# Altium footprint library Library_oll_component.PcbLib: 31 footprints (part 1 of 2)
Each footprint in its own frame and in the unit in brackets; x right, y up, seen from the top. Pads: shape width x height; smd on the part's side, far side on the other; paste and mask are expansions set on the pad; w line width, h text height; cw(c..) or ccw(c..) is an arc to the next point about the centre after c.
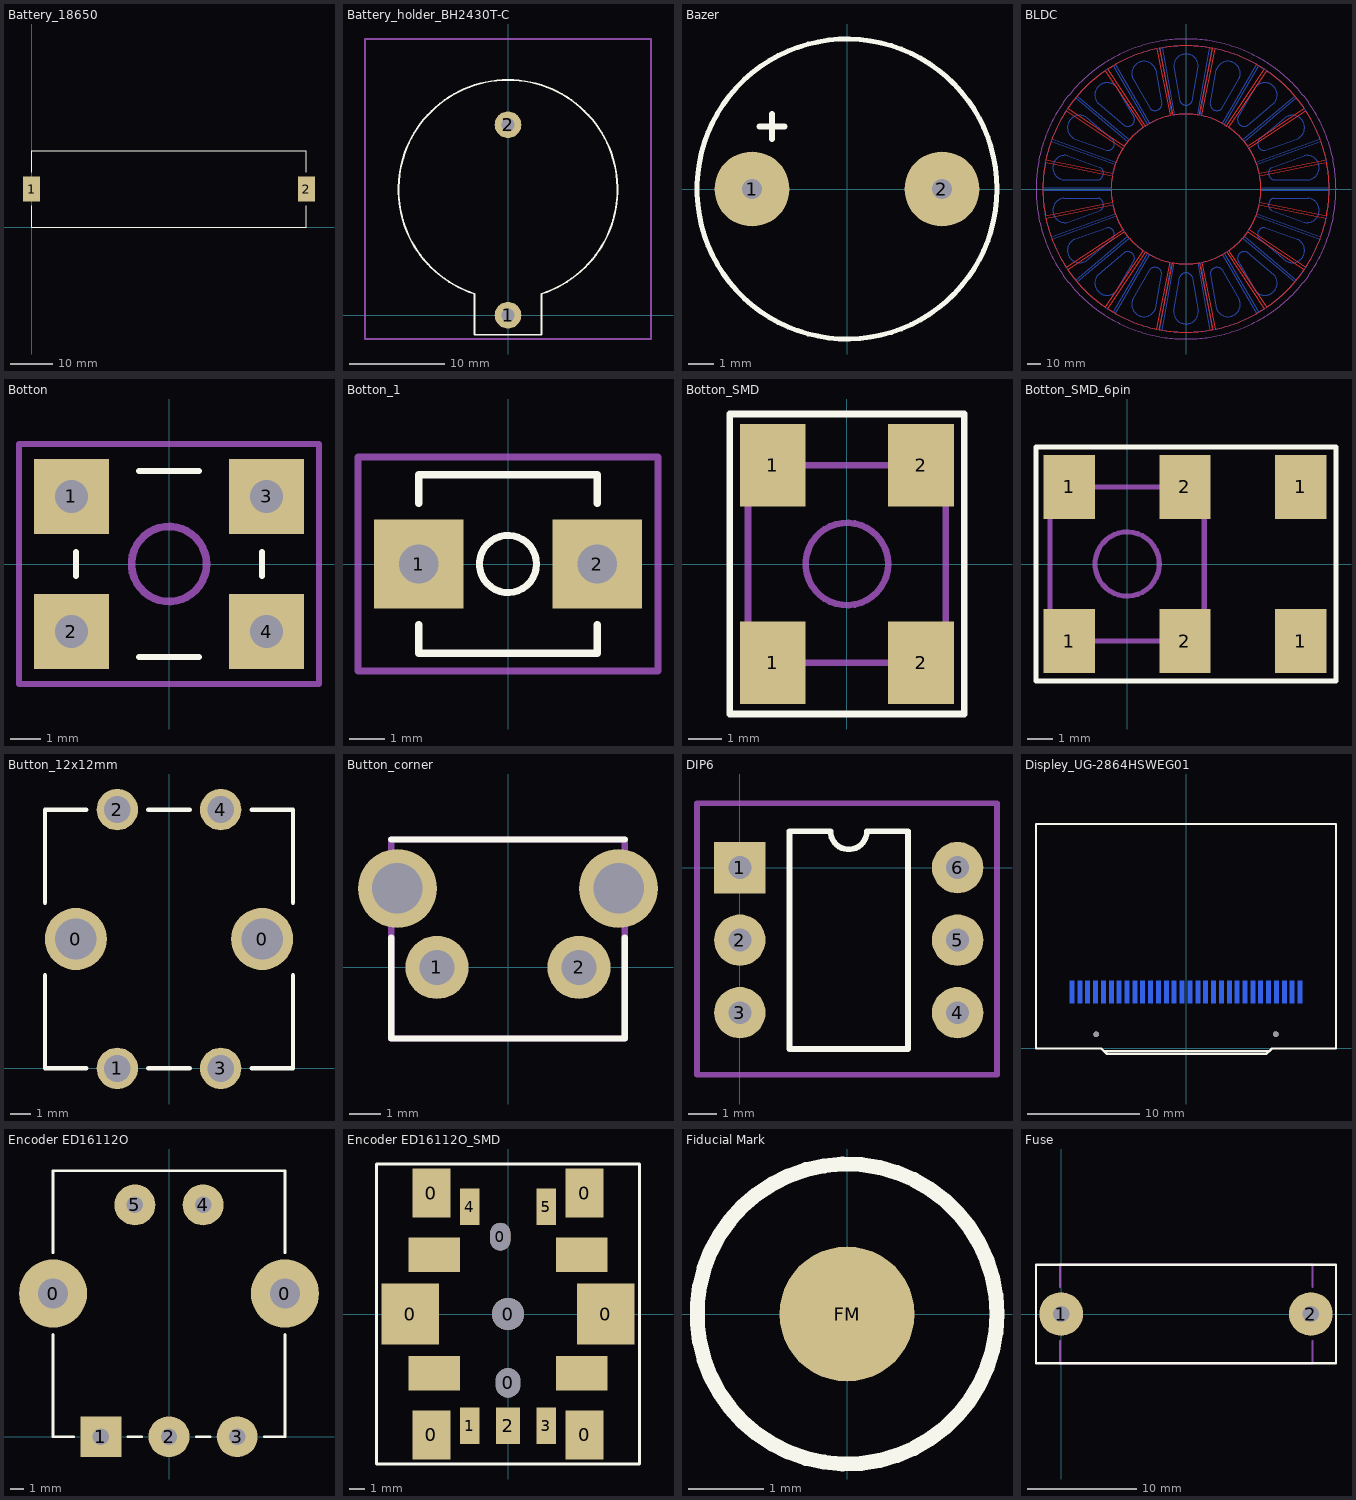
[diagram p0: the footprints below, top view; thin cyan lines are the x and y axes]

## Battery_18650 [mm]
height 6.8
pads (2):
  rect 4x6 smd: 1(0,9) 2(65,9)
Top Overlay:
  lines w0.2: 0,5 0,0 65,0 65,5 ; 0,13 0,18 65,18 65,13
3D body "User Library-18650 battery.STEP": height 21.37, standoff 3.17, extent -0.075,0 65.075,18.2

## Battery_holder_BH2430T-C [mm]
height 6.8
pads (2):
  round 2.8 hole 1.4: 1(0,0) 2(0,20)
Top Overlay:
  lines w0.2: -3.509,2.248 cw(c0,13.2) 3.509,2.248 ; -3.5,2.248 -3.5,-2.05 3.5,-2.05 3.5,2.248
Mechanical 15:
  lines w0.2: -15,-2.5 -15,29 15,29 15,-2.5 -5.001,-2.5 -15,-2.5
3D body "User Library-20mm_coin_holder.STEP": height 8.67, standoff -3.5, extent -11.55,-2.7 11.45,24.731

## Bazer [mm]
pads (2):
  round 3 hole 0.8: 1(-3.8,0) 2(3.8,0)
Top Overlay:
  circle w0.2: c0,0 r6
  lines w0.254: -3.5,2.5 -2.5,2.5 ; -3,2 -3,3
3D body "SW3dPS-WST-1203UX.STEP": height 9.65, standoff -4.5, extent -9.454,-6 6,6

## BLDC [mm]
Top Layer:
  lines w0.5: -103.08,19.499 ccw(c-5,0) -103.076,-19.521 ; -103.08,19.499 ccw(c-5,0) -103.076,-19.521 ; -103.08,19.499 -54.041,9.745 ; -103.08,19.499 -54.041,9.745 ; -103.076,-19.521 -54.037,-9.767 ; -103.076,-19.521 -54.037,-9.767 ; -102.7,21.41 cw(c-4.619,1.913) -87.772,57.462 ; -102.7,21.41 cw(c-4.619,1.913) -87.772,57.462 ; -102.7,21.41 -53.661,11.656 ; -102.7,21.41 -53.661,11.656 ; -102.696,-21.432 ccw(c-4.619,-1.913) -87.759,-57.481 ; -102.696,-21.432 ccw(c-4.619,-1.913) -87.759,-57.481 ; -102.696,-21.432 -53.657,-11.678 ; -102.696,-21.432 -53.657,-11.678 ; -87.772,57.462 -46.198,29.684 ; -87.772,57.462 -46.198,29.684 ; -87.759,-57.481 -46.186,-29.702 ; -87.759,-57.481 -46.186,-29.702 ; -86.689,59.082 cw(c-3.536,3.536) -59.101,86.677 ; -86.689,59.082 cw(c-3.536,3.536) -59.101,86.677 ; -86.689,59.082 -45.116,31.304 ; -86.689,59.082 -45.116,31.304 ; -86.677,-59.101 ccw(c-3.536,-3.536) -59.082,-86.689 ; -86.677,-59.101 ccw(c-3.536,-3.536) -59.082,-86.689 ; -86.677,-59.101 -45.104,-31.322 ; -86.677,-59.101 -45.104,-31.322 ; -59.101,86.677 -31.322,45.104 ; -59.101,86.677 -31.322,45.104 ; -59.082,-86.689 -31.304,-45.116 ; -59.082,-86.689 -31.304,-45.116 ; -57.481,87.759 cw(c-1.913,4.619) -21.432,102.696 ; -57.481,87.759 cw(c-1.913,4.619) -21.432,102.696 ; -57.481,87.759 -29.702,46.186 ; -57.481,87.759 -29.702,46.186 ; -57.462,-87.772 ccw(c-1.913,-4.619) -21.41,-102.7 ; -57.462,-87.772 ccw(c-1.913,-4.619) -21.41,-102.7 ; -57.462,-87.772 -29.684,-46.198 ; -57.462,-87.772 -29.684,-46.198 ; -54.041,9.745 ccw(c-5,0) -54.037,-9.767 ; -54.041,9.745 ccw(c-5,0) -54.037,-9.767 ; -53.661,11.656 cw(c-4.619,1.913) -46.198,29.684 ; -53.661,11.656 cw(c-4.619,1.913) -46.198,29.684 ; -53.657,-11.678 ccw(c-4.619,-1.913) -46.186,-29.702 ; -53.657,-11.678 ccw(c-4.619,-1.913) -46.186,-29.702 ; -45.116,31.304 cw(c-3.536,3.536) -31.322,45.104 ; -45.116,31.304 cw(c-3.536,3.536) -31.322,45.104 ; -45.104,-31.322 ccw(c-3.536,-3.536) -31.304,-45.116 ; -45.104,-31.322 ccw(c-3.536,-3.536) -31.304,-45.116 ; -29.702,46.186 cw(c-1.913,4.619) -11.678,53.657 ; -29.702,46.186 cw(c-1.913,4.619) -11.678,53.657 ; -29.684,-46.198 ccw(c-1.913,-4.619) -11.656,-53.661 ; -29.684,-46.198 ccw(c-1.913,-4.619) -11.656,-53.661 ; -21.432,102.696 -11.678,53.657 ; -21.432,102.696 -11.678,53.657 ; -21.41,-102.7 -11.656,-53.661 ; -21.41,-102.7 -11.656,-53.661 ; -19.521,103.076 cw(c0,5) 19.499,103.08 ; -19.521,103.076 cw(c0,5) 19.499,103.08 ; -19.521,103.076 -9.767,54.037 ; -19.521,103.076 -9.767,54.037 ; -19.499,-103.08 ccw(c0,-5) 19.521,-103.076 ; -19.499,-103.08 ccw(c0,-5) 19.521,-103.076 ; -19.499,-103.08 -9.745,-54.041 ; -19.499,-103.08 -9.745,-54.041 ; -9.767,54.037 cw(c0,5) 9.745,54.041 ; -9.767,54.037 cw(c0,5) 9.745,54.041 ; -9.745,-54.041 ccw(c0,-5) 9.767,-54.037 ; -9.745,-54.041 ccw(c0,-5) 9.767,-54.037 ; 9.745,54.041 19.499,103.08 ; 9.745,54.041 19.499,103.08 ; 9.767,-54.037 19.521,-103.076 ; 9.767,-54.037 19.521,-103.076 ; 11.656,53.661 cw(c1.913,4.619) 29.684,46.198 ; 11.656,53.661 cw(c1.913,4.619) 29.684,46.198 ; 11.656,53.661 21.41,102.7 ; 11.656,53.661 21.41,102.7 ; 11.678,-53.657 ccw(c1.913,-4.619) 29.702,-46.186 ; 11.678,-53.657 ccw(c1.913,-4.619) 29.702,-46.186 ; 11.678,-53.657 21.432,-102.696 ; 11.678,-53.657 21.432,-102.696 ; 21.41,102.7 cw(c1.913,4.619) 57.462,87.772 ; 21.41,102.7 cw(c1.913,4.619) 57.462,87.772 ; 21.432,-102.696 ccw(c1.913,-4.619) 57.481,-87.759 ; 21.432,-102.696 ccw(c1.913,-4.619) 57.481,-87.759 ; 29.684,46.198 57.462,87.772 ; 29.684,46.198 57.462,87.772 ; 29.702,-46.186 57.481,-87.759 ; 29.702,-46.186 57.481,-87.759 ; 31.304,45.116 cw(c3.536,3.536) 45.104,31.322 ; 31.304,45.116 cw(c3.536,3.536) 45.104,31.322 ; 31.304,45.116 59.082,86.689 ; 31.304,45.116 59.082,86.689 ; 31.322,-45.104 ccw(c3.536,-3.536) 45.116,-31.304 ; 31.322,-45.104 ccw(c3.536,-3.536) 45.116,-31.304 ; 31.322,-45.104 59.101,-86.677 ; 31.322,-45.104 59.101,-86.677 ; 45.104,31.322 86.677,59.101 ; 45.104,31.322 86.677,59.101 ; 45.116,-31.304 86.689,-59.082 ; 45.116,-31.304 86.689,-59.082 ; 46.186,29.702 cw(c4.619,1.913) 53.657,11.678 ; 46.186,29.702 cw(c4.619,1.913) 53.657,11.678 ; 46.186,29.702 87.759,57.481 ; 46.186,29.702 87.759,57.481 ; 46.198,-29.684 ccw(c4.619,-1.913) 53.661,-11.656 ; 46.198,-29.684 ccw(c4.619,-1.913) 53.661,-11.656 ; 46.198,-29.684 87.772,-57.462 ; 46.198,-29.684 87.772,-57.462 ; 53.657,11.678 102.696,21.432 ; 53.657,11.678 102.696,21.432 ; 53.661,-11.656 102.7,-21.41 ; 53.661,-11.656 102.7,-21.41 ; 54.037,9.767 cw(c5,0) 54.041,-9.745 ; 54.037,9.767 cw(c5,0) 54.041,-9.745 ; 54.037,9.767 103.076,19.521 ; 54.037,9.767 103.076,19.521 ; 54.041,-9.745 103.08,-19.499 ; 54.041,-9.745 103.08,-19.499 ; 59.082,86.689 cw(c3.536,3.536) 86.677,59.101 ; 59.082,86.689 cw(c3.536,3.536) 86.677,59.101 ; 59.101,-86.677 ccw(c3.536,-3.536) 86.689,-59.082 ; 59.101,-86.677 ccw(c3.536,-3.536) 86.689,-59.082 ; 87.759,57.481 cw(c4.619,1.913) 102.696,21.432 ; 87.759,57.481 cw(c4.619,1.913) 102.696,21.432 ; 87.772,-57.462 ccw(c4.619,-1.913) 102.7,-21.41 ; 87.772,-57.462 ccw(c4.619,-1.913) 102.7,-21.41 ; 103.076,19.521 cw(c5,0) 103.08,-19.499 ; 103.076,19.521 cw(c5,0) 103.08,-19.499
Bottom Layer:
  lines w0.254: -89.798,-6.704 ccw(c-88.633,-15.628) -86.675,-24.413 -62.655,-15.671 ; -89.798,-6.703 -64.281,-6.703 ; -89.798,6.703 -64.237,6.703 ; -89.798,6.704 cw(c-88.633,15.628) -86.675,24.413 -62.697,15.687 ; -82.09,-37.012 -58.112,-28.285 ; -82.09,37.012 -58.07,28.269 ; -82.09,-37.013 ccw(c-77.942,-45) -73.099,-52.585 -53.517,-36.155 ; -82.09,37.013 cw(c-77.942,45) -73.099,52.585 -53.551,36.184 ; -64.281,-6.696 cw(c-65.49,-11.548) -62.657,-15.667 ; -64.237,6.707 ccw(c-65.49,11.548) -62.695,15.694 ; -58.115,-28.278 cw(c-57.591,-33.25) -53.519,-36.152 ; -58.069,28.273 ccw(c-57.591,33.25) -53.546,36.19 ; -44.938,-46.449 cw(c-42.745,-50.942) -37.927,-52.277 ; -44.934,-46.454 -64.481,-62.856 ccw(c-57.851,-68.944) -50.705,-74.415 -37.923,-52.279 ; -44.899,46.425 -64.481,62.856 cw(c-57.851,68.944) -50.705,74.415 -37.946,52.318 ; -44.897,46.428 ccw(c-42.745,50.942) -37.939,52.321 ; -39.094,-81.119 -26.336,-59.021 ; -39.094,81.119 -26.313,58.982 ; -39.093,-81.119 ccw(c-30.782,-84.572) -22.196,-87.27 ; -39.093,81.119 cw(c-30.782,84.572) -22.196,87.27 ; -26.342,-59.017 cw(c-22.744,-62.49) -17.76,-62.096 ; -26.31,58.984 ccw(c-22.744,62.49) -17.756,62.142 ; -22.195,-87.27 -17.756,-62.097 ; -22.195,87.27 -17.764,62.141 ; -4.568,-64.468 cw(c0,-66.5) 4.549,-64.425 ; -4.561,-64.469 -8.992,-89.598 ccw(c0,-90) 8.991,-89.598 4.553,-64.425 ; -4.553,64.425 -8.992,89.598 cw(c0,90) 8.991,89.598 4.561,64.469 ; -4.549,64.425 ccw(c0,66.5) 4.568,64.468 ; 17.756,-62.142 cw(c22.744,-62.49) 26.31,-58.984 ; 17.756,62.097 22.195,87.27 ; 17.76,62.096 ccw(c22.744,62.49) 26.342,59.017 ; 17.764,-62.141 22.195,-87.27 ; 19.075,103.179 cw(c1.71,4.698) 51.71,91.301 26.71,48 ccw(c1.71,4.698) 10.393,53.939 19.075,103.179 ; 22.196,-87.27 ccw(c30.782,-84.572) 39.093,-81.119 ; 22.196,87.27 cw(c30.782,84.572) 39.093,81.119 ; 26.313,-58.982 39.094,-81.119 ; 26.336,59.021 39.094,81.119 ; 37.923,52.279 50.704,74.416 cw(c57.851,68.944) 64.48,62.857 44.934,46.454 ; 37.927,52.277 ccw(c42.745,50.942) 44.938,46.449 ; 37.939,-52.321 cw(c42.745,-50.942) 44.897,-46.428 ; 37.946,-52.318 50.704,-74.416 ccw(c57.851,-68.944) 64.48,-62.857 44.899,-46.425 ; 53.517,36.155 73.098,52.586 cw(c77.942,45) 82.09,37.013 ; 53.519,36.152 ccw(c57.591,33.25) 58.115,28.278 ; 53.546,-36.19 cw(c57.591,-33.25) 58.069,-28.273 ; 53.551,-36.184 73.098,-52.586 ccw(c77.942,-45) 82.09,-37.013 ; 58.07,-28.269 82.09,-37.012 ; 58.112,28.285 82.09,37.012 ; 62.655,15.671 86.675,24.414 cw(c88.633,15.628) 89.798,6.704 ; 62.657,15.667 ccw(c65.49,11.548) 64.281,6.696 ; 62.695,-15.694 cw(c65.49,-11.548) 64.237,-6.707 ; 62.697,-15.687 86.675,-24.414 ccw(c88.633,-15.628) 89.798,-6.704 ; 64.237,-6.703 89.798,-6.703 ; 64.281,6.703 89.798,6.703 ; -104.924,-0.868 ccw(c-4.924,-0.868) -98.893,-35.07 -51.909,-17.969 cw(c-4.924,-0.868) -54.924,-0.868 -104.924,-0.868 ; -104.924,0.868 cw(c-4.924,0.868) -98.893,35.07 -51.909,17.969 ccw(c-4.924,0.868) -54.924,0.868 -104.924,0.868 ; -98.299,-36.702 ccw(c-4.33,-2.5) -80.935,-66.779 -42.632,-34.639 cw(c-4.33,-2.5) -51.315,-19.601 -98.299,-36.702 ; -98.299,36.702 cw(c-4.33,2.5) -80.935,66.779 -42.632,34.639 ccw(c-4.33,2.5) -51.315,19.601 -98.299,36.702 ; -79.818,-68.109 ccw(c-3.214,-3.83) -53.214,-90.433 -28.214,-47.131 cw(c-3.214,-3.83) -41.516,-35.97 -79.818,-68.109 ; -79.818,68.109 cw(c-3.214,3.83) -53.214,90.433 -28.214,47.131 ccw(c-3.214,3.83) -41.516,35.97 -79.818,68.109 ; -51.71,-91.301 ccw(c-1.71,-4.698) -19.075,-103.179 -10.393,-53.939 cw(c-1.71,-4.698) -26.71,-48 -51.71,-91.301 ; -51.71,91.301 cw(c-1.71,4.698) -19.075,103.179 -10.393,53.939 ccw(c-1.71,4.698) -26.71,48 -51.71,91.301 ; -17.365,-103.481 ccw(c0,-5) 17.365,-103.481 8.682,-54.24 cw(c0,-5) -8.682,-54.24 -17.365,-103.481 ; -17.365,103.481 cw(c0,5) 17.365,103.481 8.682,54.24 ccw(c0,5) -8.682,54.24 -17.365,103.481 ; 10.393,-53.939 ccw(c1.71,-4.698) 26.71,-48 51.71,-91.301 cw(c1.71,-4.698) 19.075,-103.179 10.393,-53.939 ; 28.214,-47.131 ccw(c3.214,-3.83) 41.516,-35.97 79.818,-68.109 cw(c3.214,-3.83) 53.214,-90.433 28.214,-47.131 ; 28.214,47.131 cw(c3.214,3.83) 41.516,35.97 79.818,68.109 ccw(c3.214,3.83) 53.214,90.433 28.214,47.131 ; 42.632,-34.639 ccw(c4.33,-2.5) 51.315,-19.601 98.299,-36.702 cw(c4.33,-2.5) 80.935,-66.779 42.632,-34.639 ; 42.632,34.639 cw(c4.33,2.5) 51.315,19.601 98.299,36.702 ccw(c4.33,2.5) 80.935,66.779 42.632,34.639 ; 51.909,-17.969 ccw(c4.924,-0.868) 54.924,-0.868 104.924,-0.868 cw(c4.924,-0.868) 98.893,-35.07 51.909,-17.969 ; 51.909,17.969 cw(c4.924,0.868) 54.924,0.868 104.924,0.868 ccw(c4.924,0.868) 98.893,35.07 51.909,17.969
TopAssy:
  circle w0.254: c0,0 r110
3D body: height 95, standoff 91, extent -110.004,-110.001 110.004,110.001
3D body: height 91, standoff 86, extent -107.739,9.998 -39.073,61.735
3D body: height 91, standoff 86, extent -91.045,27.006 -25.764,91.875
3D body: height 91, standoff 86, extent -60.491,39.902 -8.532,108.028
3D body: height 91, standoff 86, extent -20.728,46.432 22.193,110.004
3D body: height 91, standoff 86, extent 9.994,39.07 61.732,107.736
3D body: height 91, standoff 86, extent 27.002,25.761 91.872,91.042
3D body: height 91, standoff 86, extent 39.899,8.529 108.025,60.488
3D body: height 91, standoff 86, extent 46.431,-22.196 110.004,20.725
3D body: height 91, standoff 86, extent 39.07,-61.735 107.735,-9.997
3D body: height 91, standoff 86, extent 25.76,-91.875 91.041,-27.005
3D body: height 91, standoff 86, extent 8.529,-108.028 60.487,-39.902
3D body: height 91, standoff 86, extent -22.196,-110.004 20.725,-46.431
3D body: height 91, standoff 86, extent -61.735,-107.735 -9.997,-39.07
3D body: height 91, standoff 86, extent -91.875,-91.041 -27.005,-25.76
3D body: height 91, standoff 86, extent -108.028,-60.488 -39.902,-8.529
3D body: height 91, standoff 86, extent -110.007,-20.724 -46.435,22.197
3D body: height -1, standoff -11, extent -102.701,11.655 -46.198,57.463
3D body: height -1, standoff -11, extent -86.69,31.303 -31.322,86.678
3D body: height -1, standoff -11, extent -57.481,46.185 -11.677,102.697
3D body: height -1, standoff -11, extent -19.522,54.036 19.5,105.001
3D body: height -1, standoff -11, extent 11.655,46.198 57.463,102.701
3D body: height -1, standoff -11, extent 31.303,31.322 86.678,86.69
3D body: height -1, standoff -11, extent 46.185,11.677 102.697,57.481
3D body: height -1, standoff -11, extent 54.036,-19.5 105.001,19.522
3D body: height -1, standoff -11, extent 46.198,-57.463 102.701,-11.655
3D body: height -1, standoff -11, extent 31.322,-86.678 86.69,-31.303
3D body: height -1, standoff -11, extent 11.677,-102.697 57.481,-46.185
3D body: height -1, standoff -11, extent -19.5,-105.001 19.522,-54.036
3D body: height -1, standoff -11, extent -57.463,-102.701 -11.655,-46.198
3D body: height -1, standoff -11, extent -86.678,-86.69 -31.303,-31.322
3D body: height -1, standoff -11, extent -102.697,-57.481 -46.185,-11.677
3D body: height -1, standoff -11, extent -105.001,-19.522 -54.036,19.5
3D body: height -6, standoff -11, extent -110.007,-20.724 -46.435,22.197
3D body: height -6, standoff -11, extent -108.028,-60.488 -39.902,-8.529
3D body: height -6, standoff -11, extent -91.875,-91.041 -27.005,-25.76
3D body: height -6, standoff -11, extent -61.735,-107.735 -9.997,-39.07
3D body: height -6, standoff -11, extent -22.196,-110.004 20.725,-46.431
3D body: height -6, standoff -11, extent 8.529,-108.028 60.487,-39.902
3D body: height -6, standoff -11, extent 25.76,-91.875 91.041,-27.005
3D body: height -6, standoff -11, extent 39.07,-61.735 107.735,-9.997
3D body: height -6, standoff -11, extent 46.431,-22.196 110.004,20.725
3D body: height -6, standoff -11, extent 39.899,8.529 108.025,60.488
3D body: height -6, standoff -11, extent 27.002,25.761 91.872,91.042
3D body: height -6, standoff -11, extent 9.994,39.07 61.732,107.736
3D body: height -6, standoff -11, extent -20.728,46.432 22.193,110.004
3D body: height -6, standoff -11, extent -60.491,39.902 -8.532,108.028
3D body: height -6, standoff -11, extent -91.045,27.006 -25.764,91.875
3D body: height -6, standoff -11, extent -107.739,9.998 -39.073,61.735
3D body: height -11, standoff -15, extent -110.004,-110.001 110.004,110.001
3D body: height 91, standoff 81, extent -19.522,54.036 19.5,105.001
3D body: height 91, standoff 81, extent -57.481,46.185 -11.677,102.697
3D body: height 91, standoff 81, extent -86.69,31.303 -31.322,86.678
3D body: height 91, standoff 81, extent -102.701,11.655 -46.198,57.463
3D body: height 91, standoff 81, extent -105.001,-19.522 -54.036,19.5
3D body: height 91, standoff 81, extent -102.697,-57.481 -46.185,-11.677
3D body: height 91, standoff 81, extent -86.678,-86.69 -31.303,-31.322
3D body: height 91, standoff 81, extent -57.463,-102.701 -11.655,-46.198
3D body: height 91, standoff 81, extent -19.5,-105.001 19.522,-54.036
3D body: height 91, standoff 81, extent 11.677,-102.697 57.481,-46.185
3D body: height 91, standoff 81, extent 31.322,-86.678 86.69,-31.303
3D body: height 91, standoff 81, extent 46.198,-57.463 102.701,-11.655
3D body: height 91, standoff 81, extent 54.036,-19.5 105.001,19.522
3D body: height 91, standoff 81, extent 46.185,11.677 102.697,57.481
3D body: height 91, standoff 81, extent 31.303,31.322 86.678,86.69
3D body: height 91, standoff 81, extent 11.655,46.198 57.463,102.701
3D body: height 5, standoff 0, extent -17.365,54.24 17.365,105.001
3D body: height 80, standoff 75, extent -17.365,54.24 17.365,105.001
3D body: height 80, standoff 75, extent -51.711,47.999 -10.392,103.18
3D body: height 5, standoff 0, extent -51.711,47.999 -10.392,103.18
3D body: height 80, standoff 75, extent -79.819,35.969 -28.213,90.433
3D body: height 5, standoff 0, extent -79.819,35.969 -28.213,90.433
3D body: height 80, standoff 75, extent -98.3,19.6 -42.632,66.779
3D body: height 5, standoff 0, extent -98.3,19.6 -42.632,66.779
3D body: height 80, standoff 75, extent -104.925,0.868 -51.908,35.071
3D body: height 5, standoff 0, extent -104.925,0.868 -51.908,35.071
3D body: height 80, standoff 75, extent -104.925,-35.071 -51.908,-0.868
3D body: height 5, standoff 0, extent -104.925,-35.071 -51.908,-0.868
3D body: height 80, standoff 75, extent -98.3,-66.779 -42.632,-19.6
3D body: height 5, standoff 0, extent -98.3,-66.779 -42.632,-19.6
3D body: height 80, standoff 75, extent -79.819,-90.433 -28.213,-35.969
3D body: height 5, standoff 0, extent -79.819,-90.433 -28.213,-35.969
3D body: height 80, standoff 75, extent -51.711,-103.18 -10.392,-47.999
3D body: height 5, standoff 0, extent -51.711,-103.18 -10.392,-47.999
3D body: height 80, standoff 75, extent -17.365,-105.001 17.365,-54.24
3D body: height 5, standoff 0, extent -17.365,-105.001 17.365,-54.24
3D body: height 80, standoff 75, extent 10.392,-103.18 51.711,-47.999
3D body: height 5, standoff 0, extent 10.392,-103.18 51.711,-47.999
3D body: height 80, standoff 75, extent 28.213,-90.433 79.819,-35.969
3D body: height 5, standoff 0, extent 28.213,-90.433 79.819,-35.969
3D body: height 80, standoff 75, extent 42.632,-66.779 98.3,-19.6
3D body: height 5, standoff 0, extent 42.632,-66.779 98.3,-19.6
3D body: height 80, standoff 75, extent 51.908,-35.071 104.925,-0.868
3D body: height 5, standoff 0, extent 51.908,-35.071 104.925,-0.868
3D body: height 80, standoff 75, extent 51.908,0.868 104.925,35.071
3D body: height 5, standoff 0, extent 51.908,0.868 104.925,35.071
3D body: height 80, standoff 75, extent 42.632,19.6 98.3,66.779
3D body: height 5, standoff 0, extent 42.632,19.6 98.3,66.779
3D body: height 80, standoff 75, extent 28.213,35.969 79.819,90.433
3D body: height 5, standoff 0, extent 28.213,35.969 79.819,90.433
3D body: height 80, standoff 75, extent 10.392,47.999 51.711,103.18
3D body: height 5, standoff 0, extent 10.392,47.999 51.711,103.18
3D body: height 75, standoff 5, extent -9.016,61.504 8.996,99.014
3D body: height 75, standoff 5, extent -39.789,57.49 -17.761,93.584
3D body: height 75, standoff 5, extent -66.869,45.939 -37.743,77.954
3D body: height 75, standoff 5, extent -86.95,28.244 -52.588,54.008
3D body: height 75, standoff 5, extent -97.65,6.684 -60.487,24.634
3D body: height 75, standoff 5, extent -97.637,-24.643 -60.485,-6.694
3D body: height 75, standoff 5, extent -86.956,-54.015 -52.584,-28.252
3D body: height 75, standoff 5, extent -66.851,-77.96 -37.737,-45.945
3D body: height 75, standoff 5, extent -39.791,-93.587 -17.755,-57.494
3D body: height 75, standoff 5, extent -8.996,-99.014 9.016,-61.504
3D body: height 75, standoff 5, extent 17.761,-93.584 39.789,-57.49
3D body: height 75, standoff 5, extent 37.743,-77.954 66.869,-45.939
3D body: height 75, standoff 5, extent 52.588,-54.008 86.95,-28.244
3D body: height 75, standoff 5, extent 60.487,-24.634 97.65,-6.684
3D body: height 75, standoff 5, extent 60.485,6.694 97.638,24.643
3D body: height 75, standoff 5, extent 52.584,28.252 86.956,54.015
3D body: height 75, standoff 5, extent 37.737,45.945 66.851,77.96
3D body: height 75, standoff 5, extent 17.755,57.494 39.791,93.587

## Botton [mm]
pads (4):
  rect 2.5x2.5 hole 1.1: 1(-3.25,2.25) 2(-3.25,-2.25) 3(3.25,2.25) 4(3.25,-2.25)
Top Overlay:
  lines w0.2: -3.1,-0.4 -3.1,0.4 ; -1,-3.1 1,-3.1 ; -1,3.1 1,3.1 ; 3.1,-0.4 3.1,0.4
Mechanical 15:
  circle w0.254: c0,0 r1.25
  lines w0.2: -5,-4 5,-4 5,4 -5,4 -5,-4

## Botton_1 [mm]
pads (2):
  rect 2.5x2.5 hole 1.1: 1(-2.5,0) 2(2.5,0)
Top Overlay:
  circle w0.2: c0,0 r0.8
  lines w0.2: -2.5,-1.7 -2.5,-2.5 2.5,-2.5 2.5,-1.7 ; -2.5,1.7 -2.5,2.5 2.5,2.5 2.5,1.7
TopAssy:
  lines w0.2: -4.2,-3 4.2,-3 4.2,3 -4.2,3 -4.2,-3

## Botton_SMD [mm]
pads (4):
  rect 2x2.5 smd: 1(-2.25,-3) 1(-2.25,3) 2(2.25,-3) 2(2.25,3)
Top Overlay:
  lines w0.2: -3.55,-4.55 3.556,-4.55 3.556,4.55 -3.55,4.55 -3.55,-4.55
TopAssy:
  circle w0.2: c0,0 r1.25
  lines w0.2: -3,-3 -3,3 3,3 3,-3 -3,-3
3D body "User Library-TS-1150S-WP.STEP": height 5, standoff 0, extent -3.25,-4 3.25,4

## Botton_SMD_6pin [mm]
pads (6):
  rect 2x2.5 smd: 1(-2.25,-3) 1(-2.25,3) 1(6.75,-3) 1(6.75,3) 2(2.25,-3) 2(2.25,3)
Top Overlay:
  lines w0.2: -3.55,-4.55 8.128,-4.55 8.128,4.55 -3.55,4.55 -3.55,-4.55
TopAssy:
  circle w0.2: c0,0 r1.25
  lines w0.2: -3,-3 -3,3 3,3 3,-3 -3,-3
3D body "User Library-TS-1150S-WP.STEP": height 5, standoff 0, extent -3.25,-4 3.25,4

## Button_12x12mm [mm]
pads (6):
  round 3 hole 2: 0(-4.5,6.25) 0(4.5,6.25)
  round 2 hole 1.3: 1(-2.5,0) 2(-2.5,12.5) 3(2.5,0) 4(2.5,12.5)
Top Overlay:
  lines w0.2: -6,4.5 -6,0 -4,0 ; -6,8 -6,12.5 -4,12.5 ; -1,0 1,0 ; -1,12.5 1,12.5 ; 4,0 6,0 6,4.5 ; 4,12.5 6,12.5 6,8
3D body "b3f-4000.stp": height 4.3, standoff -3.5, extent -6,-0.7 6,13.1

## Button_corner [mm]
pads (4):
  round 2 hole 1.1: 1(-2.25,0) 2(2.25,0)
  round 2.5 hole 1.6: ""(-3.5,2.5) ""(3.5,2.5)
Top Overlay:
  lines w0.2: -3.7,0.95 -3.7,-2.25 3.7,-2.25 3.7,0.95 ; -3.7,4.05 3.7,4.05
TopAssy:
  lines w0.2: -3.7,-2.25 -3.7,4.05 3.7,4.05 3.7,-2.25 -2.6,-2.25 -3.7,-2.25
3D body "SW3dPS-Alps TACT SKHH Horizontal Switch.STEP": height 7.37, standoff -3.5, extent -4.181,-3.92 4.181,4.05

## DIP6 [mm]
pads (6):
  rect 1.8x1.8 hole 0.8: 1(0,0)
  round 1.8 hole 0.8: 2(0,-2.54) 3(0,-5.08) 4(7.62,-5.08) 5(7.62,-2.54) 6(7.62,0)
Top Overlay:
  lines w0.2: 1.735,-6.35 1.735,1.27 3.175,1.27 ccw(c3.81,1.27) 4.445,1.27 5.885,1.27 5.885,-6.35 1.735,-6.35
Mechanical 15:
  lines w0.2: -1.5,-7.25 9,-7.25 9,2.25 -1.5,2.25 -1.5,-7.25

## Displey_UG-2864HSWEG01 [mm]
pads (33):
  round 0.5 on Bottom Overlay: 0(-10.15,3.5)
  round 0.5 hole 0.5: 0(-8,1.25) 0(8,1.26)
  rect 0.4x2 smd far side: 1(-10.15,5) 2(-9.45,5) 3(-8.75,5) 4(-8.05,5) 5(-7.35,5) 6(-6.65,5) 7(-5.95,5) 8(-5.25,5) 9(-4.55,5) 10(-3.85,5) 11(-3.15,5) 12(-2.45,5) 13(-1.75,5) 14(-1.05,5) 15(-0.35,5) 16(0.35,5) 17(1.05,5) 18(1.75,5) 19(2.45,5) 20(3.15,5) 21(3.85,5) 22(4.55,5) 23(5.25,5) 24(5.95,5) 25(6.65,5) 26(7.35,5) 27(8.05,5) 28(8.75,5) 29(9.45,5) 30(10.15,5)
Top Overlay:
  lines w0.2: -7.286,-0.25 7.4,-0.25 ; -13.35,0 -7.536,0 -7.036,-0.5 7.15,-0.5 7.65,0 13.35,0 13.35,19.975 -13.35,19.975 -13.35,0
Bottom Overlay:
  lines w0.2: 11,2 11,6 -11,6 -11,2 -7.103,-0.25 7.103,-0.25 11,2
3D body: height 0.5, standoff 0, extent -11.001,-0.251 11.001,6
3D body: height 0, standoff -0.9, extent -7.286,-0.5 7.4,-0.25
3D body: height 3.5, standoff 0, extent -13.35,-0.5 13.35,19.975

## Encoder ED16112O [mm]
pads (7):
  round 5 hole 2.2: 0(-8.5,10.5) 0(8.5,10.5)
  rect 3x3 hole 1.2: 1(-5,0)
  round 3 hole 1.2: 2(0,0) 3(5,0) 4(2.5,17) 5(-2.5,17)
Top Overlay:
  lines w0.2: -8.5,7.5 -8.5,0 -7,0 ; -8.5,13.5 -8.5,19.5 4.5,19.5 8.5,19.5 8.5,13.5 ; -3,0 -2,0 ; 2,0 3,0 ; 7,0 8.5,0 8.5,7.5
3D body "SW3dPS-Encoder.STEP": height 32, standoff -3, extent -9,-2 9,19

## Encoder ED16112O_SMD [mm]
pads (18):
  rect 3.75x4 smd: 0(-6.375,0) 0(6.375,0)
  rect 2.5x3.2 smd: 0(-5,-7.9) 0(-5,7.9) 0(5,-7.9) 0(5,7.9)
  oval 1.3x1.8 hole 1.3 slot 1.8 at 90 deg: 0(-0.5,5.05)
  oval 1.6x1.9 hole 1.6 slot 1.9 at 90 deg: 0(0,-4.5)
  round 2.1 hole 2.1: 0(0,0)
  rect 1.3x2.4 smd: 1(-2.5,-7.3) 3(2.5,-7.3) 4(-2.5,7) 5(2.5,7)
  rect 1.6x2.4 smd: 2(0,-7.3)
  rect 3.35x2.25 smd: ""(-4.825,-3.875) ""(-4.825,3.875) ""(4.825,-3.875) ""(4.825,3.875)
Top Overlay:
  lines w0.2: -8.6,-9.8 8.6,-9.8 8.6,9.8 -8.6,9.8 -8.6,0 -8.6,-9.8
3D body "User Library-EC11J0924801.STEP": height 24.5, standoff -1.2, extent -7.5,-9 7.5,9

## Fiducial Mark [mm]
pads (1):
  round 1.8 smd: FM(0,0)
Top Overlay:
  circle w0.2: c0,0 r2

## Fuse [mm]
pads (2):
  round 4 hole 1.5: 1(0,0) 2(22.85,0)
Top Overlay:
  lines w0.2: -2.3,-4.5 25.15,-4.5 25.15,4.5 -2.3,4.5 -2.3,-4.5
TopAssy:
  lines w0.2: -0.1,-2.5 -0.1,-4.5 23,-4.5 23,-2.5 ; -0.1,2.5 -0.1,4.5 23,4.5 23,2.5
3D body "User Library-Fuse_Holder.STEP": height 13.19, standoff -5.65, extent -0.14,-4.5 23.02,4.5